# Altium integrated library CC0805KKX7R6BB106.IntLib: 1 symbol
Pins are listed as number, name and electrical type; pins without a type are passive.

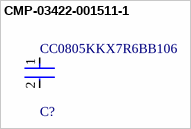
[diagram p0: symbol CMP-03422-001511-1]

## CMP-03422-001511-1
designator C?, comment CC0805KKX7R6BB106
CAP CER 10UF 10V X7R 0805; Tolerance: 10%; Dielectric: X7R; Series: CC; Min Operating Temperature: -55°C; Mount: Surface Mount; Radiation Hardening: No; Length: 2mm; Case/Package: 0805; Width: 0.049inch; Lead Free: Lead Free; Max Operating Temperature: 125°C; Thickness: 0.057inch; Capacitance: 10uF; Construction: Flat; Resistor Type: Ceramic; Height: 1.6mm; Halogen Free: Halogen Free; RoHS Compliant: Yes; Voltage Rating (DC): 10V; Case Code (Metric): 2012; Case Code (Imperial): 0805; Depth: 1.25mm; Voltage Rating: 10V; Packaging: Tape and Reel
footprint FP-CC0805-EB-MFG
footprint FP-CC0805-EB-IPC_A
footprint FP-CC0805-EB-IPC_C
footprint FP-CC0805-EB-IPC_B
pins: 1, 2